# Altium schematic symbol library C1206C225K5RACTU.SchLib: 2 symbols
Pins are listed as number, name and electrical type; pins without a type are passive.

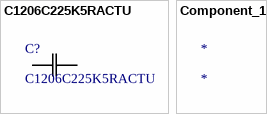
[diagram p0: symbols C1206C225K5RACTU to Component_1]

## C1206C225K5RACTU
designator C?
No Description Available; Mfr_Name: Kemet; Type: DEV; Copyright: Copyright (C) 2021 Ultra Librarian. All rights reserved.; Manufacturer_Part_Number: C1206C225K5RACTU; Digi-Key_Part_Number_1: 399-8181-1-ND; Digi-Key_Part_Number_2: 399-8181-2-ND; Digi-Key_Part_Number_3: 399-8181-6-ND; RefDes: RefDes
footprint CAPC340180_180N_KEM
pins: 1, 2

## Component_1
designator *